# Altium integrated library Cypress Memory Static RAM.IntLib: 1 symbol
Pins are listed as number, name and electrical type; pins without a type are passive.

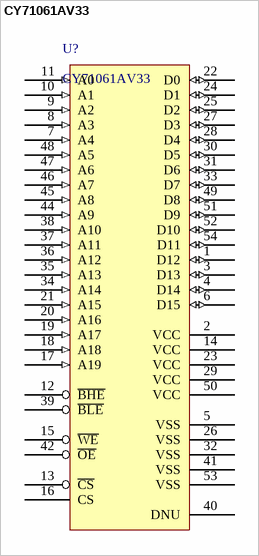
[diagram p0: symbol CY71061AV33]

## CY71061AV33
designator U?
16-Mbit (1M x 16) Static RAM; Manufacturer: Cypress
footprint TSOP-54_M
pins: 1 D12 (io), 2 VCC, 3 D13 (io), 4 D14 (io), 5 VSS, 6 D15 (io), 7 A4 (in), 8 A3 (in), 9 A2 (in), 10 A1 (in), 11 A0 (in), 12 ~{BHE}, 13 ~{CS}, 14 VCC, 15 ~{WE}, 16 CS, 17 A19 (in), 18 A18 (in), 19 A17 (in), 20 A16 (in), 21 A15 (in), 22 D0 (io), 23 VCC, 24 D1 (io), 25 D2 (io), 26 VSS, 27 D3 (io), 28 D4 (io), 29 VCC, 30 D5 (io), 31 D6 (io), 32 VSS, 33 D7 (io), 34 A14 (in), 35 A13 (in), 36 A12 (in), 37 A11 (in), 38 A10 (in), 39 ~{BLE}, 40 DNU, 41 VSS, 42 ~{OE}, 44 A9 (in), 45 A8 (in), 46 A7 (in), 47 A6 (in), 48 A5 (in), 49 D8 (io), 50 VCC, 51 D9 (io), 52 D10 (io), 53 VSS, 54 D11 (io)